# Altium schematic symbol library MCP16311.SchLib: 1 symbol
Pins are listed as number, name and electrical type; pins without a type are passive.

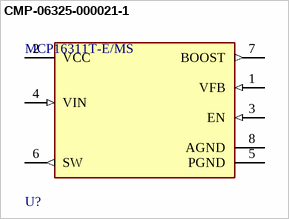
[diagram p0: symbol CMP-06325-000021-1]

## CMP-06325-000021-1
designator U?, comment MCP16311T-E/MS
IC REG BUCK ADJUSTABLE 1A 8MSOP; Max Output Current: 800mA; Synchronous Rectifier: Yes; Efficiency: 95%; Max Output Voltage: 24V; Min Output Voltage: 2V; Min Input Voltage: 4.4V; Number of Outputs: 1; Switching Frequency: 500kHz; Operating Supply Voltage: 30V; Output Voltage: 15V; Output Configuration: Positive; Output Type: Adjustable; RoHS Compliant: Yes; Max Operating Temperature: 125°C; Min Operating Temperature: -40°C; Mount: Surface Mount; Package Quantity: 2500; Case/Package: MSOP; Radiation Hardening: No; Packaging: Tape and Reel; Max Input Voltage: 30V; Number of Pins: 8; Weight: 0.004938oz; Output Current: 1A
footprint FP-C04-111-IPC_A
footprint FP-C04-111-IPC_B
footprint FP-C04-111-IPC_C
footprint FP-C04-111-MFG
pins: 1 VFB (in), 2 VCC, 3 EN (in), 4 VIN (in), 5 PGND (power), 6 SW (out), 7 BOOST (out), 8 AGND (power)